# EAGLE library part RJ45-HR911105A (library angrypig7-Connectors)
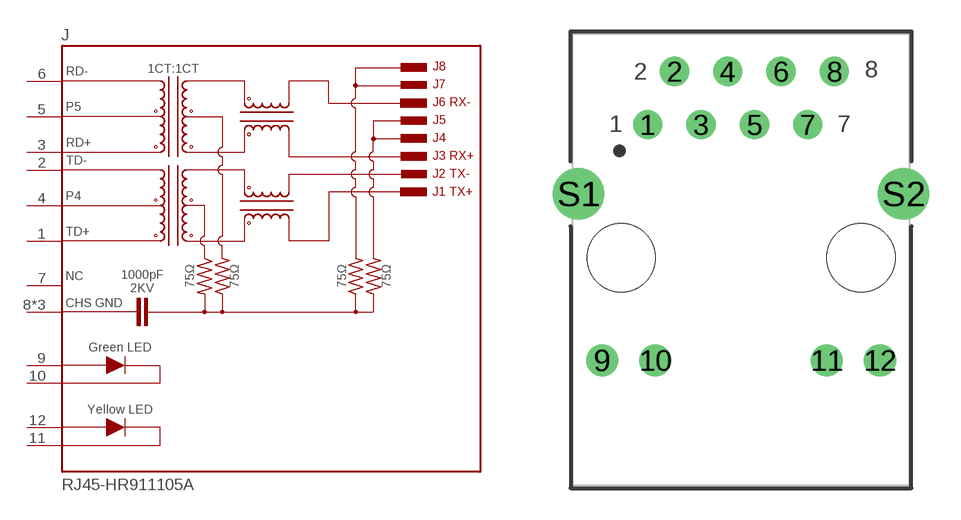
[diagram p4: symbol with the pads of RJ45-WE74990100040; footprint RJ45-WE74990100040]

Designator prefix J

## RJ45-HR911105A  [RJ45-WE74990100040]
1  P1  pas
2  P2  pas
3  P3  pas
4  P4  pas
5  P5  pas
6  P6  pas
7  P7  pas
8  P8  pwr
9  9  pas
10  10  pas
11  11  pas
12  12  pas
S1  P8  pwr
S2  P8  pwr

## Footprint RJ45-WE74990100040 (pad centres in mm)
WE-RJ45 LAN Transformer 10/100 Base-T
drill 0.89: 1 -4.445,6.35; 2 -3.175,8.89; 3 -1.905,6.35; 4 -0.635,8.89; 5 0.635,6.35; 6 1.905,8.89; 7 3.175,6.35; 8 4.445,8.89
drill 1.02: 9 -6.625,-4.9; 10 -4.085,-4.9; 11 4.085,-4.9; 12 6.625,-4.9
drill 1.63: S1 -7.745,3.05; S2 7.745,3.05
hole 3.25 at -5.715,0
hole 3.25 at 5.715,0